# Altium footprint library Connector_JST.PcbLib: 558 footprints (part 13 of 35)
Each footprint in its own frame and in the unit in brackets; x right, y up, seen from the top. Pads: shape width x height; smd on the part's side, far side on the other; paste and mask are expansions set on the pad; w line width, h text height; cw(c..) or ccw(c..) is an arc to the next point about the centre after c.
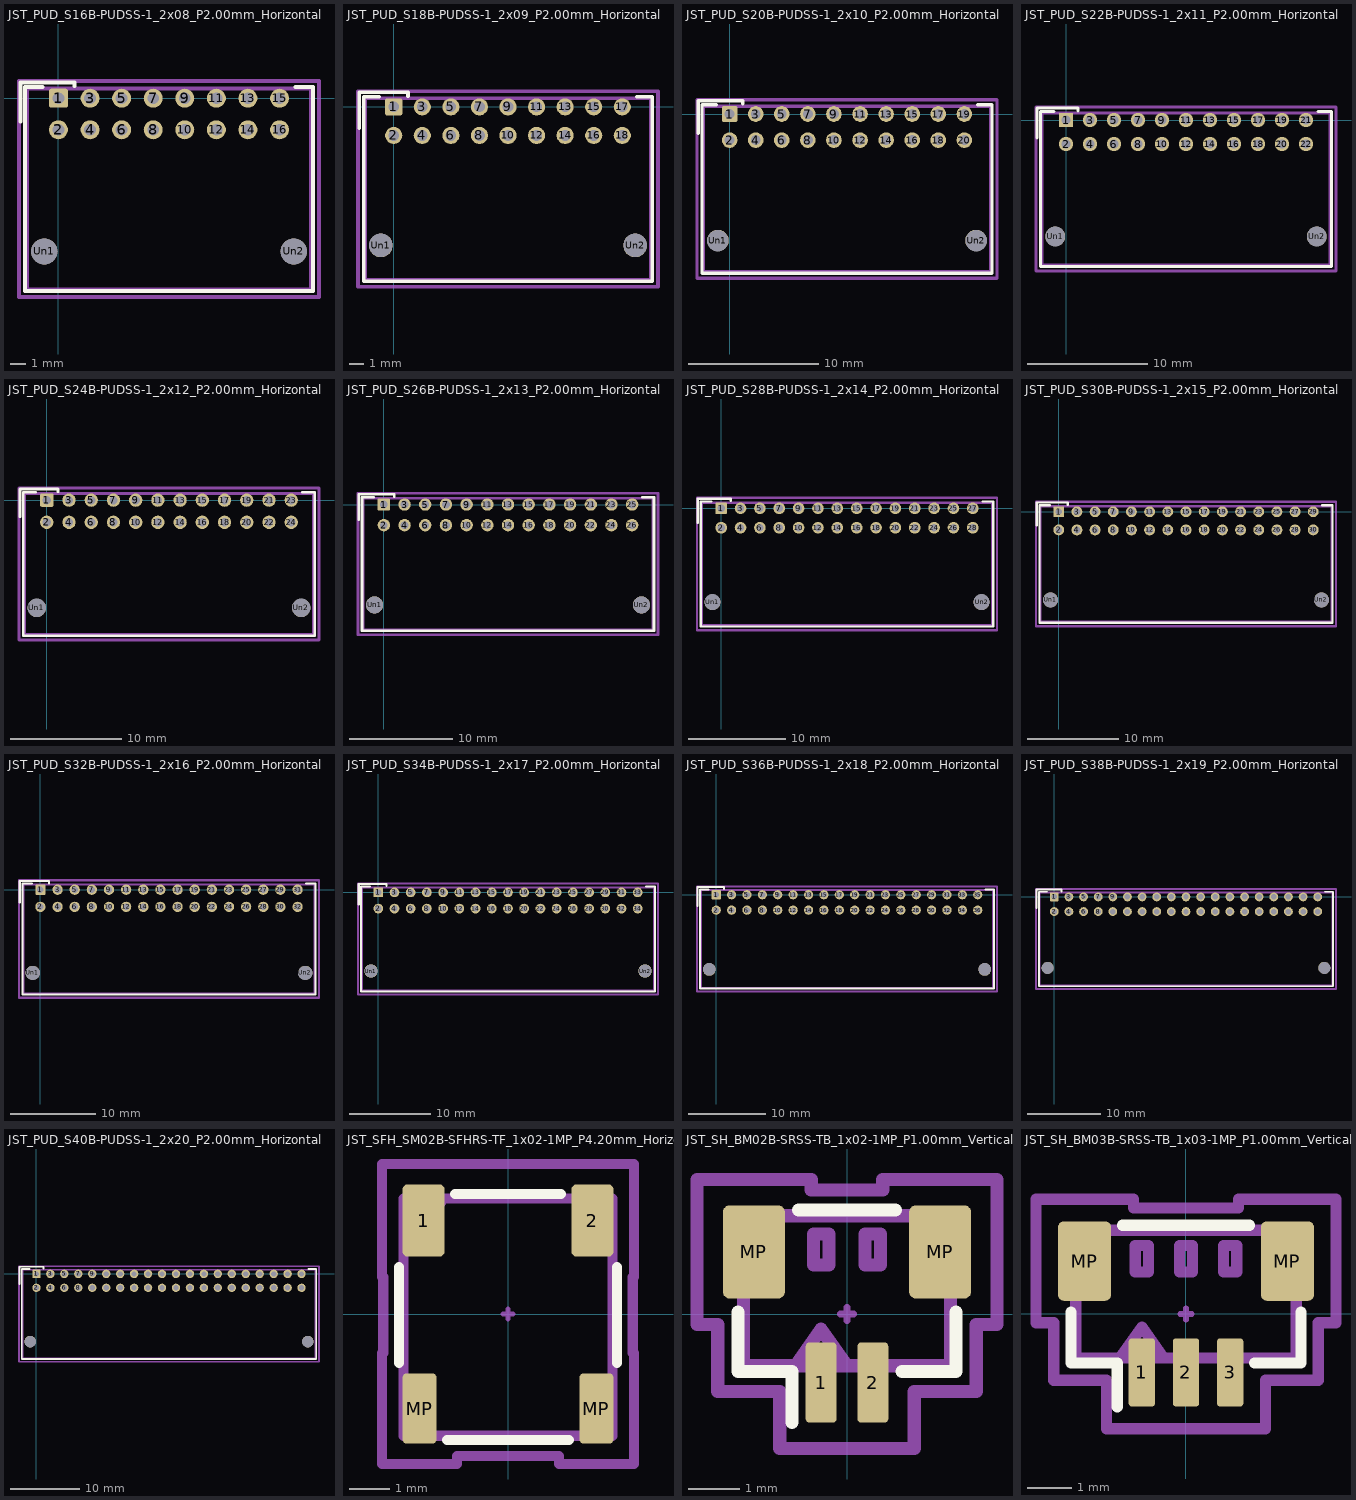
[diagram p12: the footprints below, top view; thin cyan lines are the x and y axes]

## JST_PUD_S16B-PUDSS-1_2x08_P2.00mm_Horizontal [mm] "JST_PUD_S16B-PUDSS-1_2x08_P2.00mm_Horizontal"
pads (18):
  rrect21% 1.2x1.2 hole 0.75: 1(0,0)
  round 1.2 hole 0.75: 2(0,-2) 3(2,0) 4(2,-2) 5(4,0) 6(4,-2) 7(6,0) 8(6,-2) 9(8,0) 10(8,-2) 11(10,0) 12(10,-2) 13(12,0) 14(12,-2) 15(14,0) 16(14,-2)
  round 1.65 hole 1.65: Un1(-0.9,-9.7) Un2(14.9,-9.7)
F.SilkS:
  lines w0.254: -2.41,-1.49 -2.41,1.01 1,1.01 1,0.76 ; -1,0.71 -2.11,0.71 -2.11,-12.21 7,-12.21 16.11,-12.21 16.11,0.71 15,0.71
Top Component Center:
  lines w0.127: -0.127,0 0.127,0 ; 0,-0.127 0,0.127
Top Assembly:
  lines w0.254: -0.5,0.6 0,-0.107 0.5,0.6 ; -2,-12.1 -2,0.6 16,0.6 16,-12.1 -2,-12.1
Top Courtyard:
  lines w0.254: -2.5,-12.6 -2.5,1.1 16.5,1.1 16.5,-12.6 -2.5,-12.6
Top Designator:
  text ".Designator" at 3.57,-6.094 h1.52

## JST_PUD_S18B-PUDSS-1_2x09_P2.00mm_Horizontal [mm] "JST_PUD_S18B-PUDSS-1_2x09_P2.00mm_Horizontal"
pads (20):
  rrect21% 1.2x1.2 hole 0.75: 1(0,0)
  round 1.2 hole 0.75: 2(0,-2) 3(2,0) 4(2,-2) 5(4,0) 6(4,-2) 7(6,0) 8(6,-2) 9(8,0) 10(8,-2) 11(10,0) 12(10,-2) 13(12,0) 14(12,-2) 15(14,0) 16(14,-2) 17(16,0) 18(16,-2)
  round 1.65 hole 1.65: Un1(-0.9,-9.7) Un2(16.9,-9.7)
F.SilkS:
  lines w0.254: -2.41,-1.49 -2.41,1.01 1,1.01 1,0.76 ; -1,0.71 -2.11,0.71 -2.11,-12.21 8,-12.21 18.11,-12.21 18.11,0.71 17,0.71
Top Component Center:
  lines w0.127: -0.127,0 0.127,0 ; 0,-0.127 0,0.127
Top Assembly:
  lines w0.254: -0.5,0.6 0,-0.107 0.5,0.6 ; -2,-12.1 18,-12.1 18,0.6 -2,0.6 -2,-12.1
Top Courtyard:
  lines w0.254: -2.5,-12.6 18.5,-12.6 18.5,1.1 -2.5,1.1 -2.5,-12.6
Top Designator:
  text ".Designator" at 4.57,-6.094 h1.52

## JST_PUD_S20B-PUDSS-1_2x10_P2.00mm_Horizontal [mm] "JST_PUD_S20B-PUDSS-1_2x10_P2.00mm_Horizontal"
pads (22):
  rrect21% 1.2x1.2 hole 0.75: 1(0,0)
  round 1.2 hole 0.75: 2(0,-2) 3(2,0) 4(2,-2) 5(4,0) 6(4,-2) 7(6,0) 8(6,-2) 9(8,0) 10(8,-2) 11(10,0) 12(10,-2) 13(12,0) 14(12,-2) 15(14,0) 16(14,-2) 17(16,0) 18(16,-2) 19(18,0) 20(18,-2)
  round 1.65 hole 1.65: Un1(-0.9,-9.7) Un2(18.9,-9.7)
F.SilkS:
  lines w0.254: -2.41,-1.49 -2.41,1.01 1,1.01 1,0.76 ; -1,0.71 -2.11,0.71 -2.11,-12.21 9,-12.21 20.11,-12.21 20.11,0.71 19,0.71
Top Component Center:
  lines w0.127: -0.127,0 0.127,0 ; 0,-0.127 0,0.127
Top Assembly:
  lines w0.254: -0.5,0.6 0,-0.107 0.5,0.6 ; -2,-12.1 -2,0.6 20,0.6 20,-12.1 -2,-12.1
Top Courtyard:
  lines w0.254: -2.5,-12.6 -2.5,1.1 20.5,1.1 20.5,-12.6 -2.5,-12.6
Top Designator:
  text ".Designator" at 5.57,-6.094 h1.52

## JST_PUD_S22B-PUDSS-1_2x11_P2.00mm_Horizontal [mm] "JST_PUD_S22B-PUDSS-1_2x11_P2.00mm_Horizontal"
pads (24):
  rrect21% 1.2x1.2 hole 0.75: 1(0,0)
  round 1.2 hole 0.75: 2(0,-2) 3(2,0) 4(2,-2) 5(4,0) 6(4,-2) 7(6,0) 8(6,-2) 9(8,0) 10(8,-2) 11(10,0) 12(10,-2) 13(12,0) 14(12,-2) 15(14,0) 16(14,-2) 17(16,0) 18(16,-2) 19(18,0) 20(18,-2) 21(20,0) 22(20,-2)
  round 1.65 hole 1.65: Un1(-0.9,-9.7) Un2(20.9,-9.7)
F.SilkS:
  lines w0.254: -2.41,-1.49 -2.41,1.01 1,1.01 1,0.76 ; -1,0.71 -2.11,0.71 -2.11,-12.21 10,-12.21 22.11,-12.21 22.11,0.71 21,0.71
Top Component Center:
  lines w0.127: -0.127,0 0.127,0 ; 0,-0.127 0,0.127
Top Assembly:
  lines w0.254: -0.5,0.6 0,-0.107 0.5,0.6 ; -2,-12.1 22,-12.1 22,0.6 -2,0.6 -2,-12.1
Top Courtyard:
  lines w0.254: -2.5,-12.6 22.5,-12.6 22.5,1.1 -2.5,1.1 -2.5,-12.6
Top Designator:
  text ".Designator" at 6.57,-6.094 h1.52

## JST_PUD_S24B-PUDSS-1_2x12_P2.00mm_Horizontal [mm] "JST_PUD_S24B-PUDSS-1_2x12_P2.00mm_Horizontal"
pads (26):
  rrect21% 1.2x1.2 hole 0.75: 1(0,0)
  round 1.2 hole 0.75: 2(0,-2) 3(2,0) 4(2,-2) 5(4,0) 6(4,-2) 7(6,0) 8(6,-2) 9(8,0) 10(8,-2) 11(10,0) 12(10,-2) 13(12,0) 14(12,-2) 15(14,0) 16(14,-2) 17(16,0) 18(16,-2) 19(18,0) 20(18,-2) 21(20,0) 22(20,-2) 23(22,0) 24(22,-2)
  round 1.65 hole 1.65: Un1(-0.9,-9.7) Un2(22.9,-9.7)
F.SilkS:
  lines w0.254: -2.41,-1.49 -2.41,1.01 1,1.01 1,0.76 ; -1,0.71 -2.11,0.71 -2.11,-12.21 11,-12.21 24.11,-12.21 24.11,0.71 23,0.71
Top Component Center:
  lines w0.127: -0.127,0 0.127,0 ; 0,-0.127 0,0.127
Top Assembly:
  lines w0.254: -0.5,0.6 0,-0.107 0.5,0.6 ; -2,-12.1 24,-12.1 24,0.6 -2,0.6 -2,-12.1
Top Courtyard:
  lines w0.254: -2.5,-12.6 24.5,-12.6 24.5,1.1 -2.5,1.1 -2.5,-12.6
Top Designator:
  text ".Designator" at 7.57,-6.094 h1.52

## JST_PUD_S26B-PUDSS-1_2x13_P2.00mm_Horizontal [mm] "JST_PUD_S26B-PUDSS-1_2x13_P2.00mm_Horizontal"
pads (28):
  rrect21% 1.2x1.2 hole 0.75: 1(0,0)
  round 1.2 hole 0.75: 2(0,-2) 3(2,0) 4(2,-2) 5(4,0) 6(4,-2) 7(6,0) 8(6,-2) 9(8,0) 10(8,-2) 11(10,0) 12(10,-2) 13(12,0) 14(12,-2) 15(14,0) 16(14,-2) 17(16,0) 18(16,-2) 19(18,0) 20(18,-2) 21(20,0) 22(20,-2) 23(22,0) 24(22,-2) 25(24,0) 26(24,-2)
  round 1.65 hole 1.65: Un1(-0.9,-9.7) Un2(24.9,-9.7)
F.SilkS:
  lines w0.254: -2.41,-1.49 -2.41,1.01 1,1.01 1,0.76 ; -1,0.71 -2.11,0.71 -2.11,-12.21 12,-12.21 26.11,-12.21 26.11,0.71 25,0.71
Top Component Center:
  lines w0.127: -0.127,0 0.127,0 ; 0,-0.127 0,0.127
Top Assembly:
  lines w0.254: -0.5,0.6 0,-0.107 0.5,0.6 ; -2,-12.1 -2,0.6 26,0.6 26,-12.1 -2,-12.1
Top Courtyard:
  lines w0.254: -2.5,-12.6 -2.5,1.1 26.5,1.1 26.5,-12.6 -2.5,-12.6
Top Designator:
  text ".Designator" at 8.57,-6.094 h1.52

## JST_PUD_S28B-PUDSS-1_2x14_P2.00mm_Horizontal [mm] "JST_PUD_S28B-PUDSS-1_2x14_P2.00mm_Horizontal"
pads (30):
  rrect21% 1.2x1.2 hole 0.75: 1(0,0)
  round 1.2 hole 0.75: 2(0,-2) 3(2,0) 4(2,-2) 5(4,0) 6(4,-2) 7(6,0) 8(6,-2) 9(8,0) 10(8,-2) 11(10,0) 12(10,-2) 13(12,0) 14(12,-2) 15(14,0) 16(14,-2) 17(16,0) 18(16,-2) 19(18,0) 20(18,-2) 21(20,0) 22(20,-2) 23(22,0) 24(22,-2) 25(24,0) 26(24,-2) 27(26,0) 28(26,-2)
  round 1.65 hole 1.65: Un1(-0.9,-9.7) Un2(26.9,-9.7)
F.SilkS:
  lines w0.254: -2.41,-1.49 -2.41,1.01 1,1.01 1,0.76 ; -1,0.71 -2.11,0.71 -2.11,-12.21 13,-12.21 28.11,-12.21 28.11,0.71 27,0.71
Top Component Center:
  lines w0.127: -0.127,0 0.127,0 ; 0,-0.127 0,0.127
Top Assembly:
  lines w0.254: -0.5,0.6 0,-0.107 0.5,0.6 ; -2,-12.1 -2,0.6 28,0.6 28,-12.1 -2,-12.1
Top Courtyard:
  lines w0.254: -2.5,-12.6 -2.5,1.1 28.5,1.1 28.5,-12.6 -2.5,-12.6
Top Designator:
  text ".Designator" at 9.57,-6.094 h1.52

## JST_PUD_S30B-PUDSS-1_2x15_P2.00mm_Horizontal [mm] "JST_PUD_S30B-PUDSS-1_2x15_P2.00mm_Horizontal3"
pads (32):
  rrect21% 1.2x1.2 hole 0.75: 1(0,0)
  round 1.2 hole 0.75: 2(0,-2) 3(2,0) 4(2,-2) 5(4,0) 6(4,-2) 7(6,0) 8(6,-2) 9(8,0) 10(8,-2) 11(10,0) 12(10,-2) 13(12,0) 14(12,-2) 15(14,0) 16(14,-2) 17(16,0) 18(16,-2) 19(18,0) 20(18,-2) 21(20,0) 22(20,-2) 23(22,0) 24(22,-2) 25(24,0) 26(24,-2) 27(26,0) 28(26,-2) 29(28,0) 30(28,-2)
  round 1.65 hole 1.65: Un1(-0.9,-9.7) Un2(28.9,-9.7)
F.SilkS:
  lines w0.254: -2.41,-1.49 -2.41,1.01 1,1.01 1,0.76 ; -1,0.71 -2.11,0.71 -2.11,-12.21 14,-12.21 30.11,-12.21 30.11,0.71 29,0.71
Top Component Center:
  lines w0.127: -0.127,0 0.127,0 ; 0,-0.127 0,0.127
Top Assembly:
  lines w0.254: -0.5,0.6 0,-0.107 0.5,0.6 ; -2,-12.1 -2,0.6 30,0.6 30,-12.1 -2,-12.1
Top Courtyard:
  lines w0.254: -2.5,-12.6 -2.5,1.1 30.5,1.1 30.5,-12.6 -2.5,-12.6
Top Designator:
  text ".Designator" at 10.57,-6.094 h1.52

## JST_PUD_S32B-PUDSS-1_2x16_P2.00mm_Horizontal [mm] "JST_PUD_S32B-PUDSS-1_2x16_P2.00mm_Horizontal"
pads (34):
  rrect21% 1.2x1.2 hole 0.75: 1(0,0)
  round 1.2 hole 0.75: 2(0,-2) 3(2,0) 4(2,-2) 5(4,0) 6(4,-2) 7(6,0) 8(6,-2) 9(8,0) 10(8,-2) 11(10,0) 12(10,-2) 13(12,0) 14(12,-2) 15(14,0) 16(14,-2) 17(16,0) 18(16,-2) 19(18,0) 20(18,-2) 21(20,0) 22(20,-2) 23(22,0) 24(22,-2) 25(24,0) 26(24,-2) 27(26,0) 28(26,-2) 29(28,0) 30(28,-2) 31(30,0) 32(30,-2)
  round 1.65 hole 1.65: Un1(-0.9,-9.7) Un2(30.9,-9.7)
F.SilkS:
  lines w0.254: -2.41,-1.49 -2.41,1.01 1,1.01 1,0.76 ; -1,0.71 -2.11,0.71 -2.11,-12.21 15,-12.21 32.11,-12.21 32.11,0.71 31,0.71
Top Component Center:
  lines w0.127: -0.127,0 0.127,0 ; 0,-0.127 0,0.127
Top Assembly:
  lines w0.254: -0.5,0.6 0,-0.107 0.5,0.6 ; -2,-12.1 32,-12.1 32,0.6 -2,0.6 -2,-12.1
Top Courtyard:
  lines w0.254: -2.5,-12.6 32.5,-12.6 32.5,1.1 -2.5,1.1 -2.5,-12.6
Top Designator:
  text ".Designator" at 11.57,-6.094 h1.52

## JST_PUD_S34B-PUDSS-1_2x17_P2.00mm_Horizontal [mm] "JST_PUD_S34B-PUDSS-1_2x17_P2.00mm_Horizontal"
pads (36):
  rrect21% 1.2x1.2 hole 0.75: 1(0,0)
  round 1.2 hole 0.75: 2(0,-2) 3(2,0) 4(2,-2) 5(4,0) 6(4,-2) 7(6,0) 8(6,-2) 9(8,0) 10(8,-2) 11(10,0) 12(10,-2) 13(12,0) 14(12,-2) 15(14,0) 16(14,-2) 17(16,0) 18(16,-2) 19(18,0) 20(18,-2) 21(20,0) 22(20,-2) 23(22,0) 24(22,-2) 25(24,0) 26(24,-2) 27(26,0) 28(26,-2) 29(28,0) 30(28,-2) 31(30,0) 32(30,-2) 33(32,0) 34(32,-2)
  round 1.65 hole 1.65: Un1(-0.9,-9.7) Un2(32.9,-9.7)
F.SilkS:
  lines w0.254: -2.41,-1.49 -2.41,1.01 1,1.01 1,0.76 ; -1,0.71 -2.11,0.71 -2.11,-12.21 16,-12.21 34.11,-12.21 34.11,0.71 33,0.71
Top Component Center:
  lines w0.127: -0.127,0 0.127,0 ; 0,-0.127 0,0.127
Top Assembly:
  lines w0.254: -0.5,0.6 0,-0.107 0.5,0.6 ; -2,-12.1 34,-12.1 34,0.6 -2,0.6 -2,-12.1
Top Courtyard:
  lines w0.254: -2.5,-12.6 34.5,-12.6 34.5,1.1 -2.5,1.1 -2.5,-12.6
Top Designator:
  text ".Designator" at 12.57,-6.094 h1.52

## JST_PUD_S36B-PUDSS-1_2x18_P2.00mm_Horizontal [mm] "JST_PUD_S36B-PUDSS-1_2x18_P2.00mm_Horizontal"
pads (38):
  rrect21% 1.2x1.2 hole 0.75: 1(0,0)
  round 1.2 hole 0.75: 2(0,-2) 3(2,0) 4(2,-2) 5(4,0) 6(4,-2) 7(6,0) 8(6,-2) 9(8,0) 10(8,-2) 11(10,0) 12(10,-2) 13(12,0) 14(12,-2) 15(14,0) 16(14,-2) 17(16,0) 18(16,-2) 19(18,0) 20(18,-2) 21(20,0) 22(20,-2) 23(22,0) 24(22,-2) 25(24,0) 26(24,-2) 27(26,0) 28(26,-2) 29(28,0) 30(28,-2) 31(30,0) 32(30,-2) 33(32,0) 34(32,-2) 35(34,0) 36(34,-2)
  round 1.65 hole 1.65: Un1(-0.9,-9.7) Un2(34.9,-9.7)
F.SilkS:
  lines w0.254: -2.41,-1.49 -2.41,1.01 1,1.01 1,0.76 ; -1,0.71 -2.11,0.71 -2.11,-12.21 17,-12.21 36.11,-12.21 36.11,0.71 35,0.71
Top Component Center:
  lines w0.127: -0.127,0 0.127,0 ; 0,-0.127 0,0.127
Top Assembly:
  lines w0.254: -0.5,0.6 0,-0.107 0.5,0.6 ; -2,-12.1 -2,0.6 36,0.6 36,-12.1 -2,-12.1
Top Courtyard:
  lines w0.254: -2.5,-12.6 -2.5,1.1 36.5,1.1 36.5,-12.6 -2.5,-12.6
Top Designator:
  text ".Designator" at 13.57,-6.094 h1.52

## JST_PUD_S38B-PUDSS-1_2x19_P2.00mm_Horizontal [mm] "JST_PUD_S38B-PUDSS-1_2x19_P2.00mm_Horizontal"
pads (40):
  rrect21% 1.2x1.2 hole 0.75: 1(0,0)
  round 1.2 hole 0.75: 2(0,-2) 3(2,0) 4(2,-2) 5(4,0) 6(4,-2) 7(6,0) 8(6,-2) 9(8,0) 10(8,-2) 11(10,0) 12(10,-2) 13(12,0) 14(12,-2) 15(14,0) 16(14,-2) 17(16,0) 18(16,-2) 19(18,0) 20(18,-2) 21(20,0) 22(20,-2) 23(22,0) 24(22,-2) 25(24,0) 26(24,-2) 27(26,0) 28(26,-2) 29(28,0) 30(28,-2) 31(30,0) 32(30,-2) 33(32,0) 34(32,-2) 35(34,0) 36(34,-2) 37(36,0) 38(36,-2)
  round 1.65 hole 1.65: Un1(-0.9,-9.7) Un2(36.9,-9.7)
F.SilkS:
  lines w0.254: -2.41,-1.49 -2.41,1.01 1,1.01 1,0.76 ; -1,0.71 -2.11,0.71 -2.11,-12.21 18,-12.21 38.11,-12.21 38.11,0.71 37,0.71
Top Component Center:
  lines w0.127: -0.127,0 0.127,0 ; 0,-0.127 0,0.127
Top Assembly:
  lines w0.254: -0.5,0.6 0,-0.107 0.5,0.6 ; -2,-12.1 -2,0.6 38,0.6 38,-12.1 -2,-12.1
Top Courtyard:
  lines w0.254: -2.5,-12.6 -2.5,1.1 38.5,1.1 38.5,-12.6 -2.5,-12.6
Top Designator:
  text ".Designator" at 14.57,-6.094 h1.52

## JST_PUD_S40B-PUDSS-1_2x20_P2.00mm_Horizontal [mm] "JST_PUD_S40B-PUDSS-1_2x20_P2.00mm_Horizontal"
pads (42):
  rrect21% 1.2x1.2 hole 0.75: 1(0,0)
  round 1.2 hole 0.75: 2(0,-2) 3(2,0) 4(2,-2) 5(4,0) 6(4,-2) 7(6,0) 8(6,-2) 9(8,0) 10(8,-2) 11(10,0) 12(10,-2) 13(12,0) 14(12,-2) 15(14,0) 16(14,-2) 17(16,0) 18(16,-2) 19(18,0) 20(18,-2) 21(20,0) 22(20,-2) 23(22,0) 24(22,-2) 25(24,0) 26(24,-2) 27(26,0) 28(26,-2) 29(28,0) 30(28,-2) 31(30,0) 32(30,-2) 33(32,0) 34(32,-2) 35(34,0) 36(34,-2) 37(36,0) 38(36,-2) 39(38,0) 40(38,-2)
  round 1.65 hole 1.65: Un1(-0.9,-9.7) Un2(38.9,-9.7)
F.SilkS:
  lines w0.254: -2.41,-1.49 -2.41,1.01 1,1.01 1,0.76 ; -1,0.71 -2.11,0.71 -2.11,-12.21 19,-12.21 40.11,-12.21 40.11,0.71 39,0.71
Top Component Center:
  lines w0.127: -0.127,0 0.127,0 ; 0,-0.127 0,0.127
Top Assembly:
  lines w0.254: -0.5,0.6 0,-0.107 0.5,0.6 ; -2,-12.1 -2,0.6 40,0.6 40,-12.1 -2,-12.1
Top Courtyard:
  lines w0.254: -2.5,-12.6 -2.5,1.1 40.5,1.1 40.5,-12.6 -2.5,-12.6
Top Designator:
  text ".Designator" at 15.57,-6.094 h1.52

## JST_SFH_SM02B-SFHRS-TF_1x02-1MP_P4.20mm_Horizontal [mm] "JST_SFH_SM02B-SFHRS-TF_1x02-1MP_P4.20mm_Horizontal"
pads (4):
  rrect24% 1.05x1.8 smd: 1(-2.1,2.325) 2(2.1,2.325)
  rrect25% 0.85x1.75 smd: MP(-2.2,-2.35) MP(2.2,-2.35)
F.SilkS:
  lines w0.254: -2.71,-1.215 -2.71,1.165 ; -1.515,-3.135 1.515,-3.135 ; -1.315,2.985 1.315,2.985 ; 2.71,-1.215 2.71,1.165
Top Component Center:
  lines w0.127: -0.127,0 0.127,0 ; 0,-0.127 0,0.127
Top Assembly:
  lines w0.254: -1.6,2.875 -2.1,2.168 -2.6,2.875 ; -2.6,2.875 2.6,2.875 2.6,-3.025 -2.6,-3.025 -2.6,2.875
Top Courtyard:
  lines w0.254: -3.13,-3.73 -1.27,-3.73 -1.27,-3.53 1.27,-3.53 1.27,-3.73 3.13,-3.73 3.13,-0.97 3.1,-0.97 3.1,0.92 3.13,0.92 3.13,3.73 -3.13,3.73 -3.13,0.92 -3.1,0.92 -3.1,-0.97 -3.13,-0.97 -3.13,-3.73
Top Designator:
  text ".Designator" at -3.43,-0.344 h1.52

## JST_SH_BM02B-SRSS-TB_1x02-1MP_P1.00mm_Vertical [mm] "JST_SH_BM02B-SRSS-TB_1x02-1MP_P1.00mm_Vertical"
pads (4):
  rrect25% 0.6x1.55 smd: 1(-0.5,-1.325) 2(0.5,-1.325)
  rrect21% 1.2x1.8 smd: MP(-1.8,1.2) MP(1.8,1.2)
F.SilkS:
  lines w0.254: -2.11,0.04 -2.11,-1.11 -1.06,-1.11 -1.06,-2.1 ; -0.94,2.01 0.94,2.01 ; 1.06,-1.11 2.11,-1.11 2.11,0.04
Top Component Center:
  lines w0.127: -0.127,0 0.127,0 ; 0,-0.127 0,0.127
Top Assembly:
  lines w0.254: -1,-1 -0.5,-0.293 0,-1 ; -2,-1 2,-1 2,1.9 -2,1.9 -2,-1 ; -0.65,0.95 -0.35,0.95 -0.35,1.55 -0.65,1.55 -0.65,0.95 ; 0.35,0.95 0.65,0.95 0.65,1.55 0.35,1.55 0.35,0.95
Top Courtyard:
  lines w0.254: -2.9,-0.2 -2.5,-0.2 -2.5,-1.5 -1.3,-1.5 -1.3,-2.6 1.3,-2.6 1.3,-1.5 2.5,-1.5 2.5,-0.2 2.9,-0.2 2.9,2.6 0.69,2.6 0.69,2.4 -0.69,2.4 -0.69,2.6 -2.9,2.6 -2.9,-0.2
Top Designator:
  text ".Designator" at -3.43,-0.344 h1.52

## JST_SH_BM03B-SRSS-TB_1x03-1MP_P1.00mm_Vertical [mm] "JST_SH_BM03B-SRSS-TB_1x03-1MP_P1.00mm_Vertical"
pads (5):
  rrect25% 0.6x1.55 smd: 1(-1,-1.325) 2(0,-1.325) 3(1,-1.325)
  rrect21% 1.2x1.8 smd: MP(-2.3,1.2) MP(2.3,1.2)
F.SilkS:
  lines w0.254: -2.61,0.04 -2.61,-1.11 -1.56,-1.11 -1.56,-2.1 ; -1.44,2.01 1.44,2.01 ; 1.56,-1.11 2.61,-1.11 2.61,0.04
Top Component Center:
  lines w0.127: -0.127,0 0.127,0 ; 0,-0.127 0,0.127
Top Assembly:
  lines w0.254: -1.5,-1 -1,-0.293 -0.5,-1 ; -2.5,-1 -2.5,1.9 2.5,1.9 2.5,-1 -2.5,-1 ; -1.15,0.95 -1.15,1.55 -0.85,1.55 -0.85,0.95 -1.15,0.95 ; -0.15,0.95 -0.15,1.55 0.15,1.55 0.15,0.95 -0.15,0.95 ; 0.85,0.95 0.85,1.55 1.15,1.55 1.15,0.95 0.85,0.95
Top Courtyard:
  lines w0.254: -3.4,-0.2 -3.4,2.6 -1.19,2.6 -1.19,2.4 1.19,2.4 1.19,2.6 3.4,2.6 3.4,-0.2 3,-0.2 3,-1.5 1.8,-1.5 1.8,-2.6 -1.8,-2.6 -1.8,-1.5 -3,-1.5 -3,-0.2 -3.4,-0.2
Top Designator:
  text ".Designator" at -3.43,-0.344 h1.52